# EAGLE library part CON-2X3 (library steves)
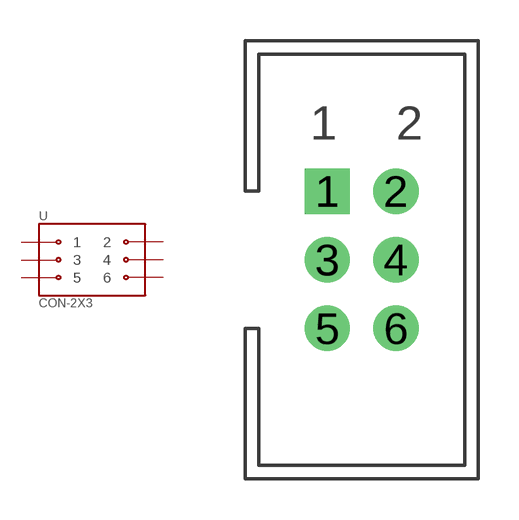
[diagram p6: symbol with the pads of CON-IDC-2X3; footprint CON-IDC-2X3]

Designator prefix -

## CON-2X3IDC-2X3  [CON-IDC-2X3]
1  1  pas
2  2  pas
3  3  pas
4  4  pas
5  5  pas
6  6  pas

## Footprint CON-IDC-2X3 (pad centres in mm)
drill 0.9 pad 1.676 square: 1 -1.27,2.54
drill 0.9 pad 1.676: 2 1.27,2.54; 3 -1.27,0; 4 1.27,0; 5 -1.27,-2.54; 6 1.27,-2.54